# Altium schematic symbol library 5-146285-2.SchLib: 1 symbol
Pins are listed as number, name and electrical type; pins without a type are passive.

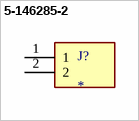
[diagram p0: symbol 5-146285-2]

## 5-146285-2
designator J?
MF: {'manufacturer': u'TE Connectivity AMP Connectors'}; MP: 5-146285-2; Value: *; Package: None; Availability: Unavailable; Price: None
footprint TE_5-146285-2
pins: 1, 2